# Altium schematic symbol library Mezon.SchLib: 14 symbols
Pins are listed as number, name and electrical type; pins without a type are passive.

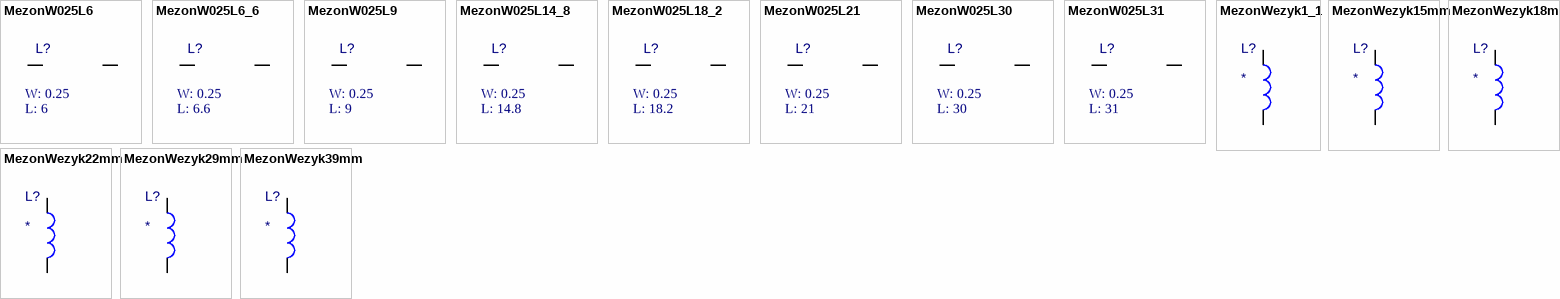
[diagram p0: symbols MezonW025L6 to MezonWezyk39mm]

## MezonW025L6
designator L?  W: 0.25  L: 6  (hidden comment: MezonW025L6)  (no BOM)
Value: MezonW025L6
footprint MEZONWEZYK6MM (Footprint not found)
pins: 1, 2

## MezonW025L6_6
designator L?  W: 0.25  L: 6.6  (hidden comment: MezonW025L6_6)  (no BOM)
Value: MezonW025L6_6
footprint MEZONWEZYK6MM6 (Footprint not found)
pins: 1, 2

## MezonW025L9
designator L?  W: 0.25  L: 9  (hidden comment: MezonW025L9)
Value: MezonW025L9
footprint MEZONWEZYK9MM (Footprint not found)
pins: 1, 2

## MezonW025L14_8
designator L?  W: 0.25  L: 14.8  (hidden comment: MezonW025L14_8)  (no BOM)
Value: MezonW025L14_8
footprint MEZONWEZYK14MM8 (Footprint not found)
pins: 1, 2

## MezonW025L18_2
designator L?  W: 0.25  L: 18.2  (hidden comment: MezonW025L18_2)  (no BOM)
Value: MezonW025L18_2
footprint MEZONWEZYK18MM2
pins: 1, 2

## MezonW025L21
designator L?, comment W: 0.25  L: 21  (hidden comment: MezonW025L18_2)  (no BOM)
Value: MezonW025L18_2
footprint MEZONWEZYK21MM (Footprint not found)
pins: 1, 2

## MezonW025L30
designator L?  W: 0.25  L: 30  (hidden comment: MezonW025L30)  (no BOM)
Value: MezonW025L30
footprint MEZONWEZYK30MM (Footprint not found)
pins: 1, 2

## MezonW025L31
designator L?  W: 0.25  L: 31  (hidden comment: MezonW025L31)  (no BOM)
Value: MezonW025L31
footprint MEZONWEZYK31MM (Footprint not found)
pins: 1, 2

## MezonWezyk1_1
designator L?  (no BOM)
footprint MEZONWEZYK1
pins: 1, 2

## MezonWezyk15mm
designator L?  (no BOM)
footprint MEZONWEZYK15MM
pins: 1, 2

## MezonWezyk18mm
designator L?  (no BOM)
footprint MEZONWEZYK18MM
pins: 1, 2

## MezonWezyk22mm
designator L?  (no BOM)
footprint MEZONWEZYK22MM
pins: 1, 2

## MezonWezyk29mm
designator L?  (no BOM)
footprint MEZONWEZYK29MM
pins: 1, 2

## MezonWezyk39mm
designator L?  (no BOM)
footprint MEZONWEZYK39mm
pins: 1, 2